# Altium integrated library ZMM5V6.IntLib: 1 symbol
Pins are listed as number, name and electrical type; pins without a type are passive.

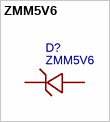
[diagram p0: symbol ZMM5V6]

## ZMM5V6
designator D?
BOM_Manufacturer: SEMTECH; BOM_Supplier: LCSC; BOM_Manufacturer Part: ZMM5V6; BOM_Supplier Part: C8062; BOM_JLCPCB Part Class: Basic Part; spicePre: D; spiceSymbolName: ZMM5V6
footprint LL-34_L3.5-W1.5-RD
pins: 1 C, 2 A